# Altium schematic symbol library Power Module 4.Schlib: 1 symbol
Pins are listed as number, name and electrical type; pins without a type are passive.

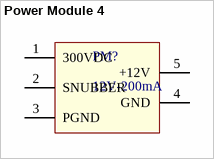
[diagram p0: symbol Power Module 4]

## Power Module 4
designator PM?, comment 12V-200mA
12V-200mA Power module
pins: 1 300VDC, 2 SNUBBER, 3 PGND, 4 GND, 5 +12V